# Altium schematic symbol library DRV8872DDAR.Schlib: 1 symbol
Pins are listed as number, name and electrical type; pins without a type are passive.

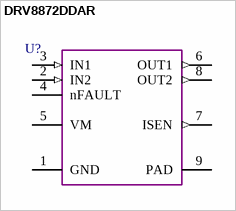
[diagram p0: symbol DRV8872DDAR]

## DRV8872DDAR
designator U?  (value not drawn)
pins: 1 GND (power) "Connect to board ground", 2 IN2 (in) "Controls the H-bridge output. Has internal pulldowns", 3 IN1 (in) "Controls the H-bridge output. Has internal pulldowns", 4 nFAULT (oc) "Fault status (open-drain)", 5 VM (power) "6.5-V to 45-V power", 6 OUT1 (out) "H-bridge outputs", 7 ISEN (out) "High-current ground path", 8 OUT2 (out) "H-bridge outputs", 9 PAD (power) "Connet to ground"